# EAGLE library part TC7W66FU (library signpost)
Bilateral Switch x2 Elements
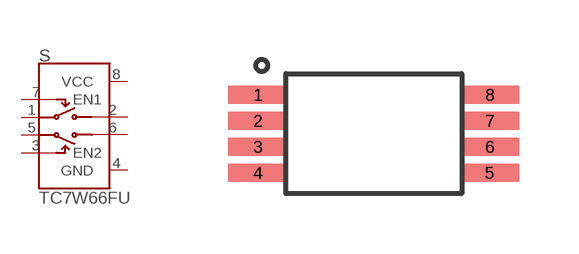
[diagram p10: symbol with the pads of TSSOP-8; footprint TSSOP-8]

Designator prefix S

## TC7W66FU  [TSSOP-8]
1  IN/OUT1
2  OUT/IN1
3  EN2
4  GND
5  IN/OUT2
6  OUT/IN2
7  EN1
8  VCC

## Footprint TSSOP-8 (pad centres in mm)
smd 1.5 x 0.45: 1 -2.9,0.975; 2 -2.9,0.325; 3 -2.9,-0.325; 4 -2.9,-0.975; 5 2.9,-0.975; 6 2.9,-0.325; 7 2.9,0.325; 8 2.9,0.975